# EAGLE library part LEDSRCSEL (library lightuino3.lbrlightuino3.1)
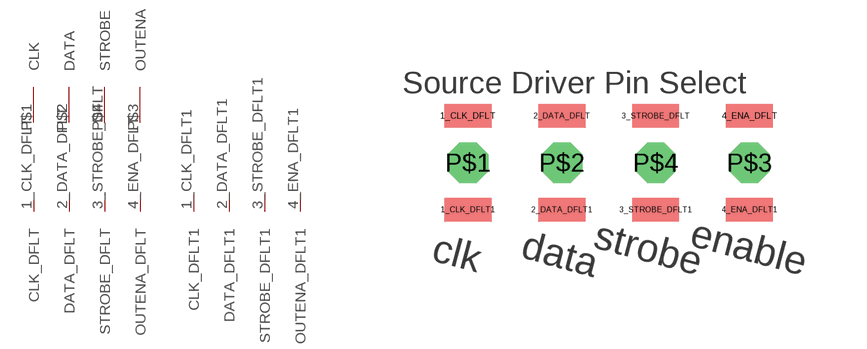
[diagram p12: symbol with the pads of LEDSRCSEL; footprint LEDSRCSEL]

Designator prefix -

## LEDSRCSEL  [LEDSRCSEL]
1_CLK_DFLT  CLK_DFLT
1_CLK_DFLT1  CLK_DFLT1
2_DATA_DFLT  DATA_DFLT
2_DATA_DFLT1  DATA_DFLT1
3_STROBE_DFLT  STROBE_DFLT
3_STROBE_DFLT1  STROBE_DFLT1
4_ENA_DFLT  OUTENA_DFLT
4_ENA_DFLT1  OUTENA_DFLT1
P$1  CLK
P$2  DATA
P$3  OUTENA
P$4  STROBE

## Footprint LEDSRCSEL (pad centres in mm)
smd 1.27 x 0.635: 1_CLK_DFLT -6.35,1.27; 1_CLK_DFLT1 -6.35,-1.27; 2_DATA_DFLT -3.81,1.27; 2_DATA_DFLT1 -3.81,-1.27; 3_STROBE_DFLT -1.27,1.27; 3_STROBE_DFLT1 -1.27,-1.27; 4_ENA_DFLT 1.27,1.27; 4_ENA_DFLT1 1.27,-1.27
drill 0.6 octagon: P$1 -6.35,0; P$2 -3.81,0; P$3 1.27,0; P$4 -1.27,0